# EAGLE library part TI-BQ77915-BMS (library ClintonLib)
3-5S Stackable Microcontroller-less Battery Back Protector and Balancer OCD, OT, OV, SCD, UT, UV, Open-Wire Detection, Balancing Datasheet <http://www.ti.com/lit/ds/symlink/bq77915.pdf> Mouser <https://www.mouser.com/ProductDetail/Texas-Instruments/BQ7791500PWR?qs=sGAEpiMZZMsfD%252bbMpEGFJZnjenjSVPua4HuFWrWpndY%3d>
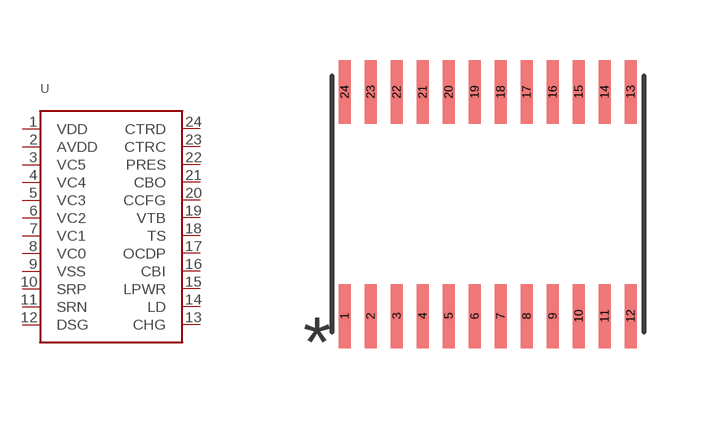
[diagram p30: symbol with the pads of TI-TSSOP24-PW-R-PDSO-G24; footprint TI-TSSOP24-PW-R-PDSO-G24]

Designator prefix -

## TI-BQ77915-BMS  [TI-TSSOP24-PW-R-PDSO-G24]
1  VDD
2  AVDD
3  VC5
4  VC4
5  VC3
6  VC2
7  VC1
8  VC0
9  VSS
10  SRP
11  SRN
12  DSG
13  CHG
14  LD
15  LPWR
16  CBI
17  OCDP
18  TS
19  VTB
20  CCFG
21  CBO
22  PRES
23  CTRC
24  CTRD

## Footprint TI-TSSOP24-PW-R-PDSO-G24 (pad centres in mm)
From Datasheet <http://www.ti.com/lit/ds/symlink/bq77915.pdf>
smd 0.3 x 1.6: 1 0,0; 2 0.65,0; 3 1.3,0; 4 1.95,0; 5 2.6,0; 6 3.25,0; 7 3.9,0; 8 4.55,0; 9 5.2,0; 10 5.85,0; 11 6.5,0; 12 7.15,0; 13 7.15,5.6; 14 6.5,5.6; 15 5.85,5.6; 16 5.2,5.6; 17 4.55,5.6; 18 3.9,5.6; 19 3.25,5.6; 20 2.6,5.6; 21 1.95,5.6; 22 1.3,5.6; 23 0.65,5.6; 24 0,5.6